# EAGLE library part DF12D(*)-30DP-0.5V (library hirose-df12)
0.5mm Pitch SMT Board to Board Connector Source: http://www.hirose.co.jp/catalogj_hp/jd_DF12_20131205.pdf http://www.hirose.co.jp/cataloge_hp/en_DF12_20130411.pdf
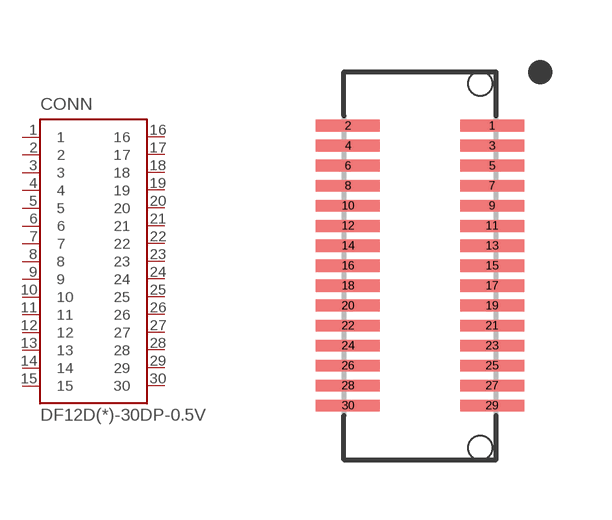
[diagram p24: symbol with the pads of DF12D(*)-30DP-0.5V; footprint DF12D(*)-30DP-0.5V]

Designator prefix CONN

## DF12D(3.0)-30DP-0.5V, DF12D(3.5)-30DP-0.5V, DF12D(4.0)-30DP-0.5V, DF12D(5.0)-30DP-0.5V  [DF12D(*)-30DP-0.5V]
1  1
2  2
3  3
4  4
5  5
6  6
7  7
8  8
9  9
10  10
11  11
12  12
13  13
14  14
15  15
16  16
17  17
18  18
19  19
20  20
21  21
22  22
23  23
24  24
25  25
26  26
27  27
28  28
29  29
30  30

## Footprint DF12D(*)-30DP-0.5V (pad centres in mm)
smd 1.6 x 0.3: 1 1.8,3.5; 2 -1.8,3.5; 3 1.8,3; 4 -1.8,3; 5 1.8,2.5; 6 -1.8,2.5; 7 1.8,2; 8 -1.8,2; 9 1.8,1.5; 10 -1.8,1.5; 11 1.8,1; 12 -1.8,1; 13 1.8,0.5; 14 -1.8,0.5; 15 1.8,0; 16 -1.8,0; 17 1.8,-0.5; 18 -1.8,-0.5; 19 1.8,-1; 20 -1.8,-1; 21 1.8,-1.5; 22 -1.8,-1.5; 23 1.8,-2; 24 -1.8,-2; 25 1.8,-2.5; 26 -1.8,-2.5; 27 1.8,-3; 28 -1.8,-3; 29 1.8,-3.5; 30 -1.8,-3.5
hole 0.6 at 1.5,4.55
hole 0.6 at 1.5,-4.55